# EAGLE library part TPS65262 (library ICs)
4.5- to18-VInput Voltage, 3-A/1-A/1-AOutput Current TripleSynchronous Step-Down Converter With Dual Adjustable 200-mA/100-mA LDOs
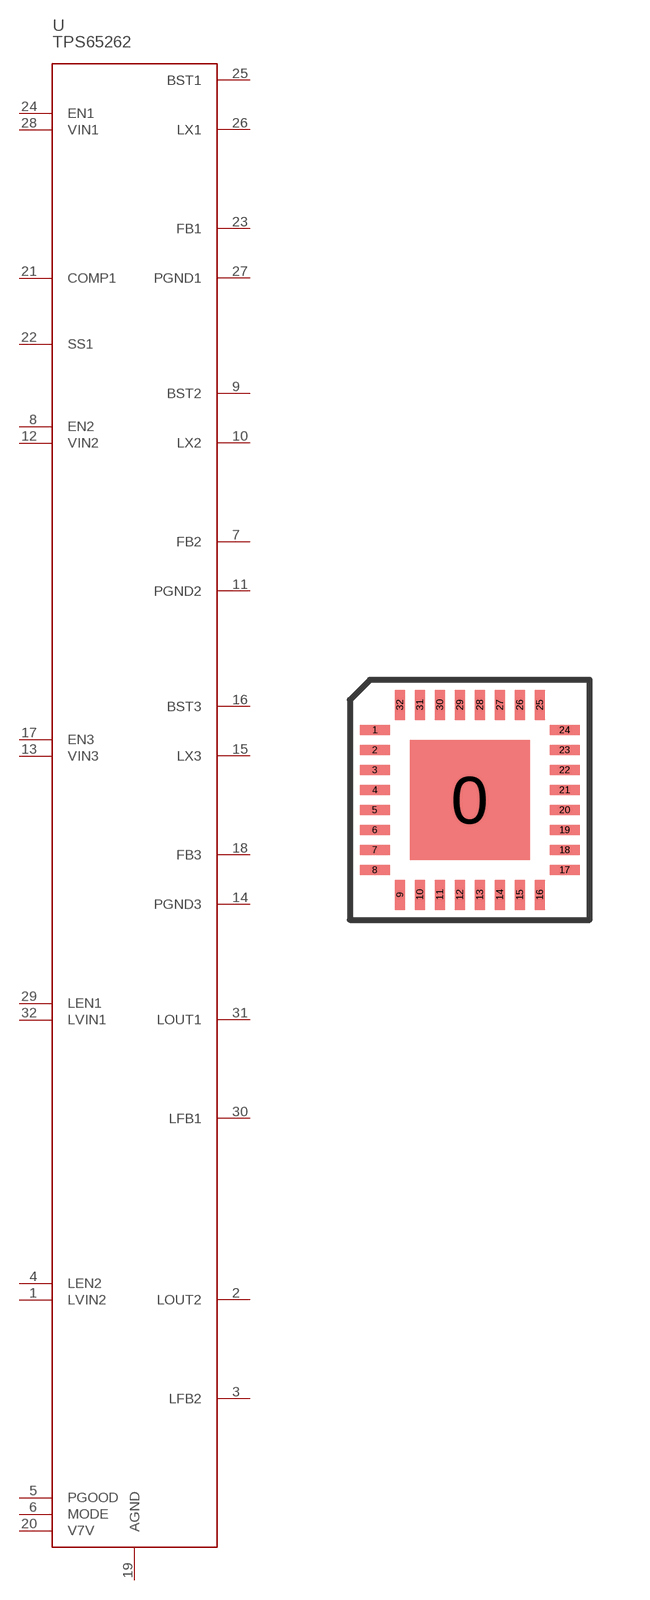
[diagram p268: symbol with the pads of QFN32; footprint QFN32]

Designator prefix U

## TPS65262 (DIGIKEY: 296-46251-1-ND; HEIGHT: 1; PRICE_PER: 2.71; VALUE: TPS65262)  [QFN32]
1  LVIN2
2  LOUT2
3  LFB2
4  LEN2
5  PGOOD
6  MODE
7  FB2
8  EN2
9  BST2
10  LX2
11  PGND2
12  VIN2
13  VIN3
14  PGND3
15  LX3
16  BST3
17  EN3
18  FB3
19  AGND
20  V7V
21  COMP1
22  SS1
23  FB1
24  EN1
25  BST1
26  LX1
27  PGND1
28  VIN1
29  LEN1
30  LFB1
31  LOUT1
32  LVIN1

## Footprint QFN32 (pad centres in mm)
smd 3 x 3: 0 0,0
smd 0.75 x 0.25: 1 -2.375,1.75; 2 -2.375,1.25; 3 -2.375,0.75; 4 -2.375,0.25; 5 -2.375,-0.25; 6 -2.375,-0.75; 7 -2.375,-1.25; 8 -2.375,-1.75; 17 2.375,-1.75; 18 2.375,-1.25; 19 2.375,-0.75; 20 2.375,-0.25; 21 2.375,0.25; 22 2.375,0.75; 23 2.375,1.25; 24 2.375,1.75
smd 0.25 x 0.75: 9 -1.75,-2.375; 10 -1.25,-2.375; 11 -0.75,-2.375; 12 -0.25,-2.375; 13 0.25,-2.375; 14 0.75,-2.375; 15 1.25,-2.375; 16 1.75,-2.375; 25 1.75,2.375; 26 1.25,2.375; 27 0.75,2.375; 28 0.25,2.375; 29 -0.25,2.375; 30 -0.75,2.375; 31 -1.25,2.375; 32 -1.75,2.375